# Altium schematic symbol library TPD4S010DQAR.SchLib: 1 symbol
Pins are listed as number, name and electrical type; pins without a type are passive.

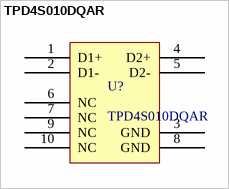
[diagram p0: symbol TPD4S010DQAR]

## TPD4S010DQAR
designator U?
USB ESD Solution, TI
footprint SON50P100X55-10N (SON, 10-Leads, Body 2.50x1.00mm, Pitch 0.50mm, IPC Medium Density)
pins: 1 D1+, 2 D1-, 3 GND, 4 D2+, 5 D2-, 6 NC, 7 NC, 8 GND, 9 NC, 10 NC